# Altium schematic symbol library 300R.SchLib: 1 symbol
Pins are listed as number, name and electrical type; pins without a type are passive.

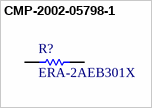
[diagram p0: symbol CMP-2002-05798-1]

## CMP-2002-05798-1
designator R?, comment ERA-2AEB301X
Manufacturer: Panasonic; Part Number: ERA-2AEB301X
footprint RESC1005X40X25ML10T10 (Chip Resistor, 2-Leads, Body 1.00x0.50mm, IPC Low Density)
footprint RESC1005X40X25NL10T10 (Chip Resistor, 2-Leads, Body 1.00x0.50mm, IPC Medium Density)
footprint RESC1005X40X25LL10T10 (Chip Resistor, 2-Leads, Body 1.00x0.50mm, IPC High Density)
pins: 1, 2
1 alternate drawing of the same symbol